# EAGLE library part 615006143221 (library WR-MJ)
WR-MJ Cat 3 Modular Jacks – THT Characteristics Shieldingless and Shielded with EMI-Spring option Optional LEDs in various sequences Vertical and Horizontal orientation Stacked and assembled configurations Tray Packaging Properties PoE++ Compatible up to 100W (IEEE 802.3bt) UL and cULus-Certified UL94-V0 insulator material Ethernet Category 3 – Category 5 under conditions Applications Networks Internet of Things mart Buildings <https://www.we-online.com/components/media/o863419v209%20multi-WR-MJTH-615002138421.jpg> Details see: www.we-online.com/en/components/products/WR_MJ_MODULAR_JACKS_THT <www.we-online.com/catalog/WR_MJ_MODULAR_JACKS_THT/?utm_source=eagle_model&utm_medium=description_link&utm_campaign=eisos_eagle> Updated by Yingchun Shan 2020-01-06 2020(C) Würth Elektronik
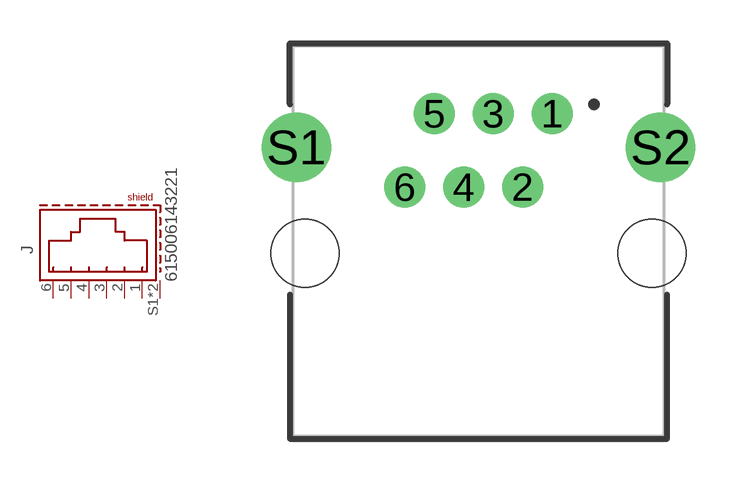
[diagram p15: symbol with the pads of 615006143221; footprint 615006143221]

Designator prefix J

## 615006143221 (DATASHEET-URL: https://www.we-online.com/redexpert/spec/615006143221?ae; EMI: No; LED: /; MOUNT: THT; PART-NUMBER: 615006143221; SIZE: Horizontal; TAB: Up; VALUE: 615006143221; XPXC: 6P6C)  [615006143221]
1  1  pas
2  2  pas
3  3  pas
4  4  pas
5  5  pas
6  6  pas
S1  SHIELD  pas
S2  SHIELD  pas

## Footprint 615006143221 (pad centres in mm)
WR-MJ Modular Jack Horizontal Shielded 6P6C Tab Up
drill 0.9: 1 2.55,4.41; 2 1.53,1.87; 3 0.51,4.41; 4 -0.51,1.87; 5 -1.53,4.41; 6 -2.55,1.87
drill 1.6: S1 -6.3,3.25; S2 6.3,3.25
hole 2.36 at -6,-0.43
hole 2.36 at 6,-0.43